# Altium integrated library Altera EPC Configuration Device.IntLib: 34 symbols (part 1 of 3)
Pins are listed as number, name and electrical type; pins without a type are passive.

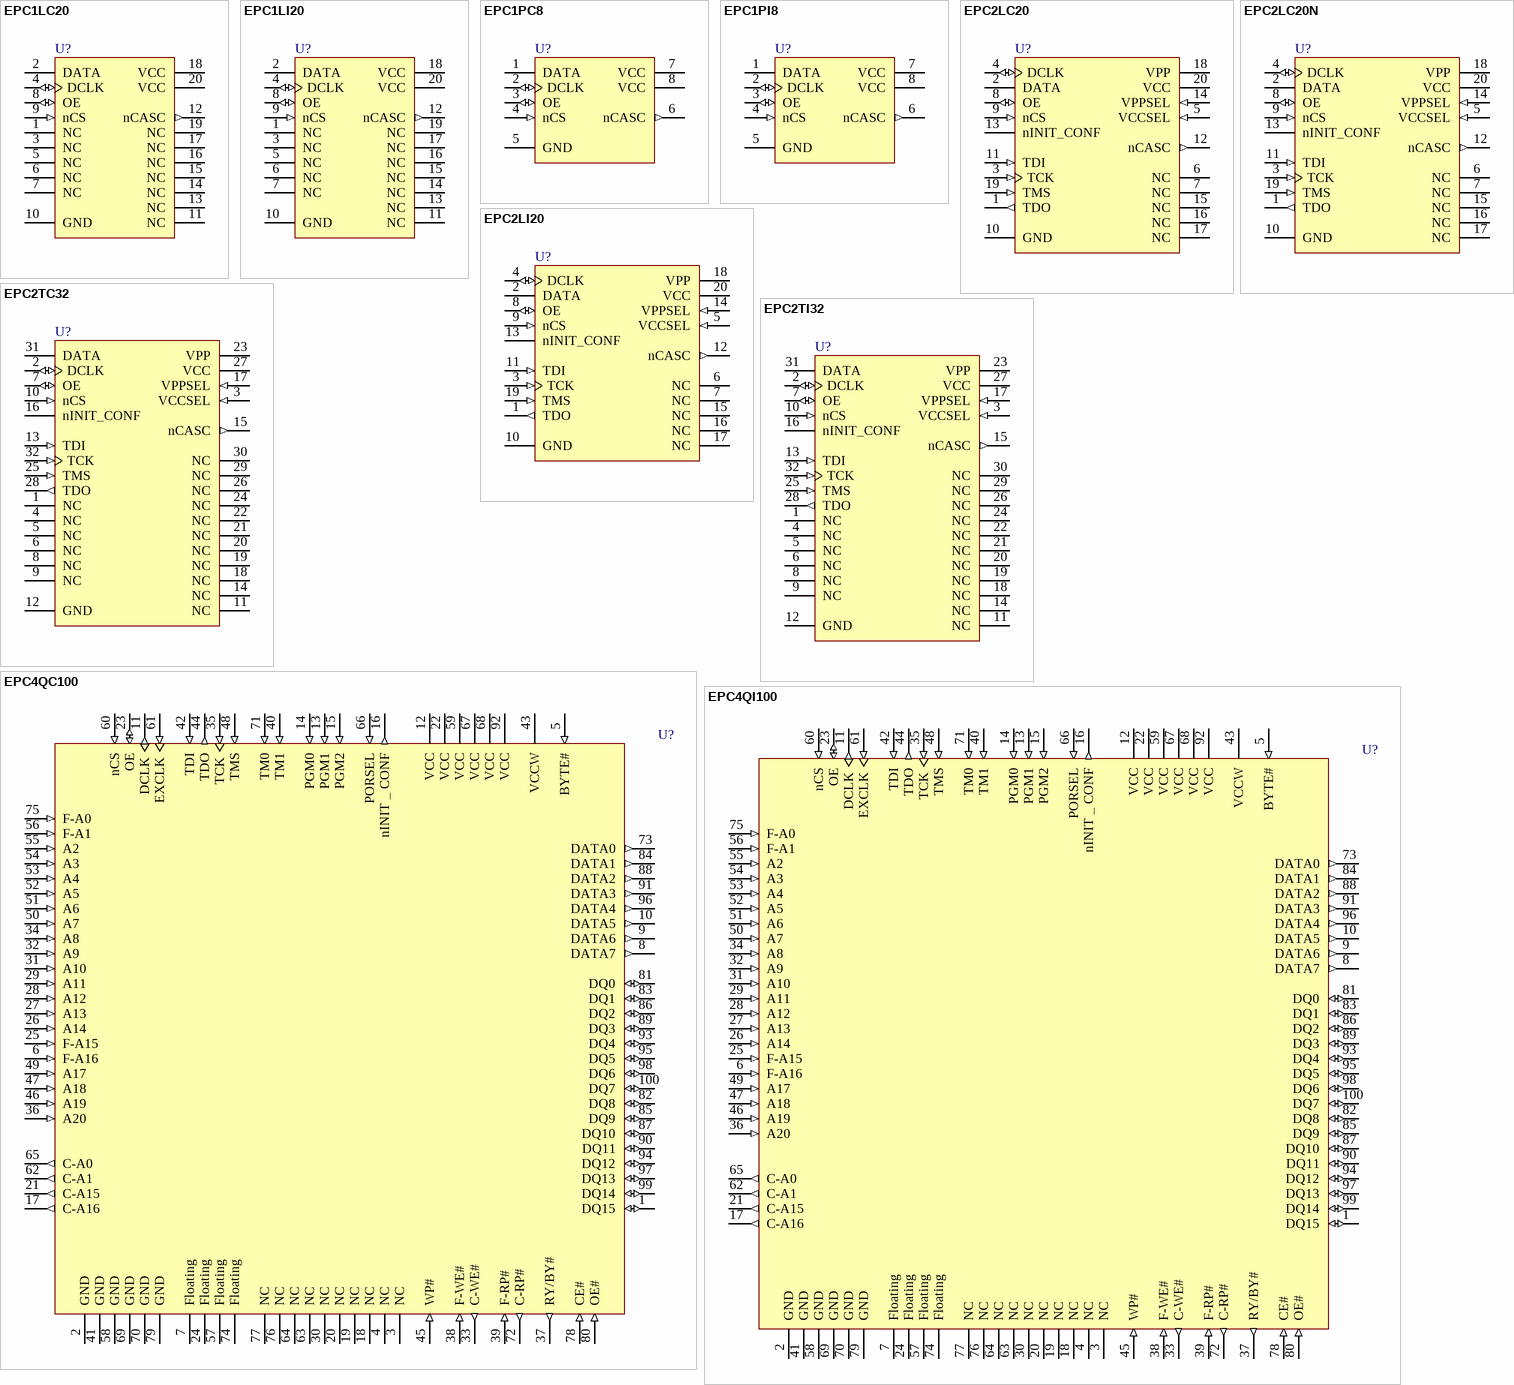
[diagram p0: symbols EPC1LC20 to EPC4QI100]

## EPC1LC20
designator U?
EPC1 Series, One-time programmable 3.3 or 5V configuration device, 20-Pin PLCC, 1-Megabit, Commercial Grade; Configures: APEX, FLEX & ACEX Devices; Published: 24-Nov-2000; LatestRevisionDate: 13-Apr-2006; LatestRevisionNote: IPC-7351 Footprint Added.; DatasheetVersion: ver2.0, Oct-2003; PackageVersion: ver14.2, Oct-2005; PackageReference: PLCC20; Publisher: Altium Limited; PackageDescription: 20-Pin Plastic J-Lead Chip Carrier (PLCC20); Supplier 1: Digi-Key; Supplier Part Number 1: 544-1229-5-ND; Code_JEDEC: MS-018-AA; Code_IPC: PLCC-20; ComponentLink1Description: Manufacturer Link; ComponentLink1URL: http://www.altera.com/products/devices/config/cfg-index.html; ComponentLink2Description: Configuration Handbook; ComponentLink2URL: http://www.altera.com/literature/hb/cfg/config_handbook.pdf; ComponentLink3Description: Pinout Specification; ComponentLink3URL: http://www.altera.com/literature/hb/cfg/cfg_cf52004.pdf; ComponentLink4Description: Packaging Specification; ComponentLink4URL: http://www.altera.com/literature/ds/dspkg.pdf
footprint PLCC20_N (Leaded Chip Carrier, 20-Leads, Body 9x9mm, Pitch 1.27mm, IPC Medium Density)
footprint PLCC20_L (Leaded Chip Carrier, 20-Leads, Body 9x9mm, Pitch 1.27mm, IPC High Density)
footprint PLCC20_M (Leaded Chip Carrier, 20-Leads, Body 9x9mm, Pitch 1.27mm, IPC Low Density)
3D model EPC1-PLCC20 (20-Pin Plastic J-Lead Chip Carrier (PLCC20))
pins: 1 NC "No Connect", 2 DATA (hiz) "Serial data out", 3 NC "No Connect", 4 DCLK (io), 5 NC "No Connect", 6 NC "No Connect", 7 NC "No Connect", 8 OE (io) "Output enable, and active low reset", 9 nCS (in) "Active low, chip select input", 10 GND (power) "Ground", 11 NC "No Connect", 12 nCASC (out) "Active low, cascade select output", 13 NC "No Connect", 14 NC "No Connect", 15 NC "No Connect", 16 NC "No Connect", 17 NC "No Connect", 18 VCC (power) "Power Supply", 19 NC "No Connect", 20 VCC (power) "Power Supply"

## EPC1LI20
designator U?
EPC1 Series, One-time programmable 3.3 or 5V configuration device, 20-Pin PLCC, 1-Megabit, Industrial Grade; Configures: APEX, FLEX & ACEX Devices; Published: 24-Nov-2000; LatestRevisionDate: 13-Apr-2006; LatestRevisionNote: IPC-7351 Footprint Added.; DatasheetVersion: ver2.0, Oct-2003; PackageVersion: ver14.2, Oct-2005; PackageReference: PLCC20; Publisher: Altium Limited; PackageDescription: 20-Pin Plastic J-Lead Chip Carrier (PLCC20); Supplier 1: Digi-Key; Supplier Part Number 1: 544-1230-5-ND; Code_JEDEC: MS-018-AA; Code_IPC: PLCC-20; ComponentLink1Description: Manufacturer Link; ComponentLink1URL: http://www.altera.com/products/devices/config/cfg-index.html; ComponentLink2Description: Configuration Handbook; ComponentLink2URL: http://www.altera.com/literature/hb/cfg/config_handbook.pdf; ComponentLink3Description: Pinout Specification; ComponentLink3URL: http://www.altera.com/literature/hb/cfg/cfg_cf52004.pdf; ComponentLink4Description: Packaging Specification; ComponentLink4URL: http://www.altera.com/literature/ds/dspkg.pdf
footprint PLCC20_N (Leaded Chip Carrier, 20-Leads, Body 9x9mm, Pitch 1.27mm, IPC Medium Density)
footprint PLCC20_L (Leaded Chip Carrier, 20-Leads, Body 9x9mm, Pitch 1.27mm, IPC High Density)
footprint PLCC20_M (Leaded Chip Carrier, 20-Leads, Body 9x9mm, Pitch 1.27mm, IPC Low Density)
3D model EPC1-PLCC20 (20-Pin Plastic J-Lead Chip Carrier (PLCC20))
pins: 1 NC "No Connect", 2 DATA (hiz) "Serial data out", 3 NC "No Connect", 4 DCLK (io), 5 NC "No Connect", 6 NC "No Connect", 7 NC "No Connect", 8 OE (io) "Output enable, and active low reset", 9 nCS (in) "Active low, chip select input", 10 GND (power) "Ground", 11 NC "No Connect", 12 nCASC (out) "Active low, cascade select output", 13 NC "No Connect", 14 NC "No Connect", 15 NC "No Connect", 16 NC "No Connect", 17 NC "No Connect", 18 VCC (power) "Power Supply", 19 NC "No Connect", 20 VCC (power) "Power Supply"

## EPC1PC8
designator U?
EPC1 Series, One-time programmable 3.3 or 5V configuration device, 8-Pin PDIP, 1-Megabit, Commercial Grade; Configures: APEX, FLEX & ACEX Devices; Published: 24-Nov-2000; LatestRevisionDate: 17-Dec-2003; LatestRevisionNote: Updated to Oct-2003 datasheet; DatasheetVersion: ver2.0, Oct-2003; PackageVersion: ver14.2, Oct-2005; PackageReference: PDIP8; Publisher: Altium Limited; PackageDescription: 8-Pin Plastic Dual In-Line Package (PDIP); Supplier 1: Digi-Key; Supplier Part Number 1: 544-1231-5-ND; Code_JEDEC: MS-001-BA; ComponentLink1Description: Manufacturer Link; ComponentLink1URL: http://www.altera.com/products/devices/config/cfg-index.html; ComponentLink2Description: Configuration Handbook; ComponentLink2URL: http://www.altera.com/literature/hb/cfg/config_handbook.pdf; ComponentLink3Description: Pinout Specification; ComponentLink3URL: http://www.altera.com/literature/hb/cfg/cfg_cf52004.pdf; ComponentLink4Description: Packaging Specification; ComponentLink4URL: http://www.altera.com/literature/ds/dspkg.pdf
footprint PDIP8 (DIP, 8-Leads, Row Spacing 7.62mm, Pitch 2.54mm, Body 9.4x6.35mm)
pins: 1 DATA (hiz) "Serial data out", 2 DCLK (io), 3 OE (io) "Output enable, and active low reset", 4 nCS (in) "Active low, chip select input", 5 GND (power) "Ground", 6 nCASC (out) "Active low, cascade select output", 7 VCC (power) "3.3V supply", 8 VCC (power) "3.3V supply"

## EPC1PI8
designator U?
EPC1 Series, One-time programmable 3.3 or 5V configuration device, 8-Pin PDIP, 1-Megabit, Industrial Grade; Configures: APEX, FLEX & ACEX Devices; Published: 24-Nov-2000; LatestRevisionDate: 17-Dec-2003; LatestRevisionNote: Updated to Oct-2003 datasheet; DatasheetVersion: ver2.0, Oct-2003; PackageVersion: ver14.2, Oct-2005; PackageReference: PDIP8; Publisher: Altium Limited; PackageDescription: 8-Pin Plastic Dual In-Line Package (PDIP); Supplier 1: Digi-Key; Supplier Part Number 1: 544-1232-5-ND; Code_JEDEC: MS-001-BA; ComponentLink1Description: Manufacturer Link; ComponentLink1URL: http://www.altera.com/products/devices/config/cfg-index.html; ComponentLink2Description: Configuration Handbook; ComponentLink2URL: http://www.altera.com/literature/hb/cfg/config_handbook.pdf; ComponentLink3Description: Pinout Specification; ComponentLink3URL: http://www.altera.com/literature/hb/cfg/cfg_cf52004.pdf; ComponentLink4Description: Packaging Specification; ComponentLink4URL: http://www.altera.com/literature/ds/dspkg.pdf
footprint PDIP8 (DIP, 8-Leads, Row Spacing 7.62mm, Pitch 2.54mm, Body 9.4x6.35mm)
pins: 1 DATA (hiz) "Serial data out", 2 DCLK (io), 3 OE (io) "Output enable, and active low reset", 4 nCS (in) "Active low, chip select input", 5 GND (power) "Ground", 6 nCASC (out) "Active low, cascade select output", 7 VCC (power) "3.3V supply", 8 VCC (power) "3.3V supply"

## EPC2LC20
designator U?
EPC2 Series, In-system programmable 3.3 or 5V configuration device, 20-Pin PLCC, 1.6-Megabit, Commercial Grade; Configures: Stratix II, Stratix, Stratix GX, Cyclone II, Cyclone, APEX II, APEX, FLEX, Mercury, ACEX, and Excalibur Devices; Published: 17-Sep-2003; LatestRevisionDate: 13-Apr-2006; LatestRevisionNote: IPC-7351 Footprint Added.; DatasheetVersion: ver2.0, Oct-2003; PackageVersion: ver14.2, Oct-2005; PackageReference: PLCC20; Publisher: Altium Limited; PackageDescription: 20-Pin Plastic J-Lead Chip Carrier (PLCC20); Supplier 1: Digi-Key; Supplier Part Number 1: 544-1233-5-ND; Code_JEDEC: MS-018-AA; Code_IPC: PLCC-20; ComponentLink1Description: Manufacturer Link; ComponentLink1URL: http://www.altera.com/products/devices/config/cfg-index.html; ComponentLink2Description: Configuration Handbook; ComponentLink2URL: http://www.altera.com/literature/hb/cfg/config_handbook.pdf; ComponentLink3Description: Pinout Specification; ComponentLink3URL: http://www.altera.com/literature/hb/cfg/cfg_cf52004.pdf; ComponentLink4Description: Packaging Specification; ComponentLink4URL: http://www.altera.com/literature/ds/dspkg.pdf
footprint PLCC20_N (Leaded Chip Carrier, 20-Leads, Body 9x9mm, Pitch 1.27mm, IPC Medium Density)
footprint PLCC20_L (Leaded Chip Carrier, 20-Leads, Body 9x9mm, Pitch 1.27mm, IPC High Density)
footprint PLCC20_M (Leaded Chip Carrier, 20-Leads, Body 9x9mm, Pitch 1.27mm, IPC Low Density)
3D model EPC2-PLCC20 (20-Pin Plastic J-Lead Chip Carrier (PLCC20))
pins: 1 TDO (out) "JTAG data output pin", 2 DATA (hiz) "Serial data out", 3 TCK (in) "JTAG clock pin", 4 DCLK (io), 5 VCCSEL (in) "Mode select for VCC", 6 NC "No Connect", 7 NC "No Connect", 8 OE (io) "Output enable, and active low reset", 9 nCS (in) "Active low, chip select input", 10 GND (power) "Ground", 11 TDI (in) "JTAG data input pin", 12 nCASC (out) "Active low, cascade select output", 13 nINIT_CONF (oc), 14 VPPSEL (in) "Mode select for VPP", 15 NC "No Connect", 16 NC "No Connect", 17 NC "No Connect", 18 VPP (power) "Programming power pin", 19 TMS (in) "JTAG mode select pin", 20 VCC (power) "Power Supply"

## EPC2LC20N
designator U?
EPC2 Series, In-system programmable 3.3 or 5V configuration device, 20-Pin PLCC, 1.6-Megabit, Commercial Grade, Pb-Free; Configures: Stratix II, Stratix, Stratix GX, Cyclone II, Cyclone, APEX II, APEX, FLEX, Mercury, ACEX, and Excalibur Devices; Published: 4-Mar-2005; LatestRevisionDate: 13-Apr-2006; LatestRevisionNote: IPC-7351 Footprint Added.; DatasheetVersion: ver2.0, Oct-2003; PackageVersion: ver14.2, Oct-2005; PackageReference: PLCC20; Publisher: Altium Limited; PackageDescription: 20-Pin Plastic J-Lead Chip Carrier (PLCC20); Supplier 1: Digi-Key; Supplier Part Number 1: 544-1376-5-ND; Supplier 2: Farnell; Supplier Part Number 2: 1662270; Supplier 3: Farnell; Supplier Part Number 3: 1549336; Code_JEDEC: MS-018-AA; Code_IPC: PLCC-20; ComponentLink1Description: Manufacturer Link; ComponentLink1URL: http://www.altera.com/products/devices/config/cfg-index.html; ComponentLink2Description: Configuration Handbook; ComponentLink2URL: http://www.altera.com/literature/hb/cfg/config_handbook.pdf; ComponentLink3Description: Pinout Specification; ComponentLink3URL: http://www.altera.com/literature/hb/cfg/cfg_cf52004.pdf; ComponentLink4Description: Packaging Specification; ComponentLink4URL: http://www.altera.com/literature/ds/dspkg.pdf
footprint PLCC20_N (Leaded Chip Carrier, 20-Leads, Body 9x9mm, Pitch 1.27mm, IPC Medium Density)
footprint PLCC20_L (Leaded Chip Carrier, 20-Leads, Body 9x9mm, Pitch 1.27mm, IPC High Density)
footprint PLCC20_M (Leaded Chip Carrier, 20-Leads, Body 9x9mm, Pitch 1.27mm, IPC Low Density)
3D model EPC2-PLCC20 (20-Pin Plastic J-Lead Chip Carrier (PLCC20))
pins: 1 TDO (out) "JTAG data output pin", 2 DATA (hiz) "Serial data out", 3 TCK (in) "JTAG clock pin", 4 DCLK (io), 5 VCCSEL (in) "Mode select for VCC", 6 NC "No Connect", 7 NC "No Connect", 8 OE (io) "Output enable, and active low reset", 9 nCS (in) "Active low, chip select input", 10 GND (power) "Ground", 11 TDI (in) "JTAG data input pin", 12 nCASC (out) "Active low, cascade select output", 13 nINIT_CONF (oc), 14 VPPSEL (in) "Mode select for VPP", 15 NC "No Connect", 16 NC "No Connect", 17 NC "No Connect", 18 VPP (power) "Programming power pin", 19 TMS (in) "JTAG mode select pin", 20 VCC (power) "Power Supply"

## EPC2LI20
designator U?
EPC2 Series, In-system programmable 3.3 or 5V configuration device, 20-Pin PLCC, 1.6-Megabit, Industrial Grade; Configures: Stratix II, Stratix, Stratix GX, Cyclone II, Cyclone, APEX II, APEX, FLEX, Mercury, ACEX, and Excalibur Devices; Published: 17-Sep-2003; LatestRevisionDate: 13-Apr-2006; LatestRevisionNote: IPC-7351 Footprint Added.; DatasheetVersion: ver2.0, Oct-2003; PackageVersion: ver14.2, Oct-2005; PackageReference: PLCC20; Publisher: Altium Limited; PackageDescription: 20-Pin Plastic J-Lead Chip Carrier (PLCC20); Supplier 1: Digi-Key; Supplier Part Number 1: 544-1234-5-ND; Code_JEDEC: MS-018-AA; Code_IPC: PLCC-20; ComponentLink1Description: Manufacturer Link; ComponentLink1URL: http://www.altera.com/products/devices/config/cfg-index.html; ComponentLink2Description: Configuration Handbook; ComponentLink2URL: http://www.altera.com/literature/hb/cfg/config_handbook.pdf; ComponentLink3Description: Pinout Specification; ComponentLink3URL: http://www.altera.com/literature/hb/cfg/cfg_cf52004.pdf; ComponentLink4Description: Packaging Specification; ComponentLink4URL: http://www.altera.com/literature/ds/dspkg.pdf
footprint PLCC20_N (Leaded Chip Carrier, 20-Leads, Body 9x9mm, Pitch 1.27mm, IPC Medium Density)
footprint PLCC20_L (Leaded Chip Carrier, 20-Leads, Body 9x9mm, Pitch 1.27mm, IPC High Density)
footprint PLCC20_M (Leaded Chip Carrier, 20-Leads, Body 9x9mm, Pitch 1.27mm, IPC Low Density)
3D model EPC2-PLCC20 (20-Pin Plastic J-Lead Chip Carrier (PLCC20))
pins: 1 TDO (out) "JTAG data output pin", 2 DATA (hiz) "Serial data out", 3 TCK (in) "JTAG clock pin", 4 DCLK (io), 5 VCCSEL (in) "Mode select for VCC", 6 NC "No Connect", 7 NC "No Connect", 8 OE (io) "Output enable, and active low reset", 9 nCS (in) "Active low, chip select input", 10 GND (power) "Ground", 11 TDI (in) "JTAG data input pin", 12 nCASC (out) "Active low, cascade select output", 13 nINIT_CONF (oc), 14 VPPSEL (in) "Mode select for VPP", 15 NC "No Connect", 16 NC "No Connect", 17 NC "No Connect", 18 VPP (power) "Programming power pin", 19 TMS (in) "JTAG mode select pin", 20 VCC (power) "Power Supply"

## EPC2TC32
designator U?
EPC2 Series, In-system programmable 3.3 or 5V configuration device, 32-Pin TQFP, 1.6-Megabit, Commercial Grade; Configures: Stratix II, Stratix, Stratix GX, Cyclone II, Cyclone, APEX II, APEX, FLEX, Mercury, ACEX, and Excalibur Devices; Published: 17-Sep-2003; LatestRevisionDate: 13-Apr-2006; LatestRevisionNote: IPC-7351 Footprint Added.; DatasheetVersion: ver2.0, Oct-2003; PackageVersion: ver14.2, Oct-2005; PackageReference: TQFP32; Publisher: Altium Limited; PackageDescription: 32-Pin Plastic Thin Quad Flat Pack (TFQP32); Supplier 1: Digi-Key; Supplier Part Number 1: 544-1235-ND; Code_JEDEC: MS-026-ABA; ComponentLink1Description: Manufacturer Link; ComponentLink1URL: http://www.altera.com/products/devices/config/cfg-index.html; ComponentLink2Description: Configuration Handbook; ComponentLink2URL: http://www.altera.com/literature/hb/cfg/config_handbook.pdf; ComponentLink3Description: Pinout Specification; ComponentLink3URL: http://www.altera.com/literature/hb/cfg/cfg_cf52004.pdf; ComponentLink4Description: Packaging Specification; ComponentLink4URL: http://www.altera.com/literature/ds/dspkg.pdf
footprint TQFP32_N (Thin QFP, 32-Leads, Body 7x7mm, Pitch 0.8mm, IPC Medium Density)
footprint TQFP32_L (Thin QFP, 32-Leads, Body 7x7mm, Pitch 0.8mm, IPC High Density)
footprint TQFP32_M (Thin QFP, 32-Leads, Body 7x7mm, Pitch 0.8mm, IPC Low Density)
3D model EPC2-TQFP32 (32-Pin Plastic Thin Quad Flat Pack (TFQP32))
pins: 1 NC "No Connect", 2 DCLK (io), 3 VCCSEL (in) "Mode select for VCC", 4 NC "No Connect", 5 NC "No Connect", 6 NC "No Connect", 7 OE (io) "Output enable, and active low reset", 8 NC "No Connect", 9 NC "No Connect", 10 nCS (in) "Active low, chip select input", 11 NC "No Connect", 12 GND (power) "Ground", 13 TDI (in) "JTAG data input pin", 14 NC "No Connect", 15 nCASC (out) "Active low, cascade select output", 16 nINIT_CONF (oc), 17 VPPSEL (in) "Mode select for VPP", 18 NC "No Connect", 19 NC "No Connect", 20 NC "No Connect", 21 NC "No Connect", 22 NC "No Connect", 23 VPP (power) "Programming power pin", 24 NC "No Connect", 25 TMS (in) "JTAG mode select pin", 26 NC "No Connect", 27 VCC (power) "Power Supply", 28 TDO (out) "JTAG data output pin", 29 NC "No Connect", 30 NC "No Connect", 31 DATA (hiz) "Serial data out", 32 TCK (in) "JTAG clock pin"

## EPC2TI32
designator U?
EPC2 Series, In-system programmable 3.3 or 5V configuration device, 32-Pin TQFP, 1.6-Megabit, Industrial Grade; Configures: Stratix II, Stratix, Stratix GX, Cyclone II, Cyclone, APEX II, APEX, FLEX, Mercury, ACEX, and Excalibur Devices; Published: 17-Sep-2003; LatestRevisionDate: 13-Apr-2006; LatestRevisionNote: IPC-7351 Footprint Added.; DatasheetVersion: ver2.0, Oct-2003; PackageVersion: ver14.2, Oct-2005; PackageReference: TQFP32; Publisher: Altium Limited; PackageDescription: 32-Pin Plastic Thin Quad Flat Pack (TFQP32); Supplier 1: Digi-Key; Supplier Part Number 1: 544-1236-ND; Code_JEDEC: MS-026-ABA; ComponentLink1Description: Manufacturer Link; ComponentLink1URL: http://www.altera.com/products/devices/config/cfg-index.html; ComponentLink2Description: Configuration Handbook; ComponentLink2URL: http://www.altera.com/literature/hb/cfg/config_handbook.pdf; ComponentLink3Description: Pinout Specification; ComponentLink3URL: http://www.altera.com/literature/hb/cfg/cfg_cf52004.pdf; ComponentLink4Description: Packaging Specification; ComponentLink4URL: http://www.altera.com/literature/ds/dspkg.pdf
footprint TQFP32_N (Thin QFP, 32-Leads, Body 7x7mm, Pitch 0.8mm, IPC Medium Density)
footprint TQFP32_L (Thin QFP, 32-Leads, Body 7x7mm, Pitch 0.8mm, IPC High Density)
footprint TQFP32_M (Thin QFP, 32-Leads, Body 7x7mm, Pitch 0.8mm, IPC Low Density)
3D model EPC2-TQFP32 (32-Pin Plastic Thin Quad Flat Pack (TFQP32))
pins: 1 NC "No Connect", 2 DCLK (io), 3 VCCSEL (in) "Mode select for VCC", 4 NC "No Connect", 5 NC "No Connect", 6 NC "No Connect", 7 OE (io) "Output enable, and active low reset", 8 NC "No Connect", 9 NC "No Connect", 10 nCS (in) "Active low, chip select input", 11 NC "No Connect", 12 GND (power) "Ground", 13 TDI (in) "JTAG data input pin", 14 NC "No Connect", 15 nCASC (out) "Active low, cascade select output", 16 nINIT_CONF (oc), 17 VPPSEL (in) "Mode select for VPP", 18 NC "No Connect", 19 NC "No Connect", 20 NC "No Connect", 21 NC "No Connect", 22 NC "No Connect", 23 VPP (power) "Programming power pin", 24 NC "No Connect", 25 TMS (in) "JTAG mode select pin", 26 NC "No Connect", 27 VCC (power) "Power Supply", 28 TDO (out) "JTAG data output pin", 29 NC "No Connect", 30 NC "No Connect", 31 DATA (hiz) "Serial data out", 32 TCK (in) "JTAG clock pin"

## EPC4QC100
designator U?
EPC4 Series, In-system programmable 3.3V configuration device, 100-Pin PQFP, 4-Megabit, Commercial Grade; Configures: Stratix II, Stratix, Stratix GX, Cyclone II, Cyclone, APEX II, APEX, FLEX, Mercury, ACEX & Excalibur Devices; Published: 17-Sep-2003; LatestRevisionDate: 13-Apr-2006; LatestRevisionNote: IPC-7351 Footprint Added.; DatasheetVersion: ver2.0, Oct-2003; PackageVersion: ver14.3, Jul-2006; PackageReference: PQFP100; Publisher: Altium Limited; PackageDescription: 100-Pin Plastic Quad Flat Pack (PFQP100) - Option 1; Supplier 1: Digi-Key; Supplier Part Number 1: 544-1237-ND; Code_JEDEC: MS-022-GC-1; Code_IPC: QFP65P1720X2320-100; ComponentLink1Description: Manufacturer Link; ComponentLink1URL: http://www.altera.com/products/devices/config/cfg-index.html; ComponentLink2Description: Configuration Handbook; ComponentLink2URL: http://www.altera.com/literature/hb/cfg/config_handbook.pdf; ComponentLink3Description: Pinout Specification; ComponentLink3URL: http://www.altera.com/literature/dp/config/epc4.txt; ComponentLink4Description: Packaging Specification; ComponentLink4URL: http://www.altera.com/literature/ds/dspkg.pdf
footprint PQFP100_N (QFP, 100-Leads, Body 20x14mm, Pitch 0.65mm, IPC Medium Density)
footprint PQFP100_L (QFP, 100-Leads, Body 20x14mm, Pitch 0.65mm, IPC High Density)
footprint PQFP100_M (QFP, 100-Leads, Body 20x14mm, Pitch 0.65mm, IPC Low Density)
3D model EPC4-PQFP100 (100-Pin Plastic Quad Flat Pack (PFQP100) - Option 1)
pins: 1 DQ15 (io) "Data bus that interfaces with flash memory and the controller.", 2 GND (power) "Ground pin", 3 NC "No Connect pin", 4 NC "No Connect pin", 5 BYTE# (in) "Flash byte enable. Connected to VCC.", 6 F-A16 (in) "Address input to flash memory. Should be connected to C-A16 on the board.", 7 Floating "Unconnected pin", 8 DATA7 (out) "PLD configuration output data bus.", 9 DATA6 (out) "PLD configuration output data bus.", 10 DATA5 (out) "PLD configuration output data bus.", 11 DCLK (out) "Configuration devices drive this signal to the programmable logic device (PLD) as a configuration clock.", 12 VCC (power) "Power supply pin", 13 PGM1 (in) "Select one of eight pages that contains configuration data.", 14 PGM0 (in) "Select one of eight pages that contains configuration data.", 15 PGM2 (in) "Select one of eight pages that contains configuration data.", 16 nINIT _ CONF (out) "Initiate configuration.", 17 C-A16 (out) "Address input to flash memory. Should be connected to F-A16 on the board.", 18 NC "No Connect pin", 19 NC "No Connect pin", 20 NC "No Connect pin", 21 C-A15 (out) "Address input to flash memory. Should be connected to F-A15 on the board.", 22 VCC (power) "Power supply pin", 23 OE (io) "Configuration devices sense that OE goes high, before starting PLD configuration.", 24 Floating "Unconnected pin", 25 F-A15 (in) "Address input to flash memory. Should be connected to C-A15 on the board.", 26 A14 (in) "Address input to flash memory.", 27 A13 (in) "Address input to flash memory.", 28 A12 (in) "Address input to flash memory.", 29 A11 (in) "Address input to flash memory.", 30 NC "No Connect pin", 31 A10 (in) "Address input to flash memory.", 32 A9 (in) "Address input to flash memory.", 33 C-WE# (out) "Controller write enable pin. Should be connected to F-WE# on the board", 34 A8 (in) "Address input to flash memory.", 35 TCK (in) "JTAG clock.", 36 A20 (in) "Address input to flash memory.", 37 RY/BY# (out) "Flash ready busy pin. Will be asserted when write or erase operation is completed.", 38 F-WE# (in) "Flash write enable pin. Should be connected to C-WE# on the board", 39 F-RP# (in) "Flash pin which resets the flash memory. Should be connected to C-RP# on the board.", 40 TM1 (in) "Select test mode for configuration device.", 41 GND (power) "Ground pin", 42 TDI (in) "Joint Test Action Group (JTAG) data input.", 43 VCCW (power) "Flash program/erase power supply.", 44 TDO (out) "JTAG data output.", 45 WP# (in) "Flash pin which should be tied to VCC or GND on the board.", 46 A19 (in) "Address input to flash memory.", 47 A18 (in) "Address input to flash memory.", 48 TMS (in) "JTAG mode selection.", 49 A17 (in) "Address input to flash memory.", 50 A7 (in) "Address input to flash memory.", 51 A6 (in) "Address input to flash memory.", 52 A5 (in) "Address input to flash memory.", 53 A4 (in) "Address input to flash memory.", 54 A3 (in) "Address input to flash memory.", 55 A2 (in) "Address input to flash memory.", 56 F-A1 (in) "Address input to flash memory. Should be connected to C-A1 on the board.", 57 Floating "Unconnected pin", 58 GND (power) "Ground pin", 59 VCC (power) "Power supply pin", 60 nCS (in) "Connected to CONF_DONE in the PLD. The PLD will drive it low, when OE is asserted.", 61 EXCLK (in) "External clock source.", 62 C-A1 (out) "Address input to flash memory. Should be connected to F-A1 on the board.", 63 NC "No Connect pin", 64 NC "No Connect pin", 65 C-A0 (out) "Address input to flash memory. Should be connected to F-A0 on the board.", 66 PORSEL (in) "Select 2 ms or 100 ms power-on reset (POR).", 67 VCC (power) "Power supply pin", 68 VCC (power) "Power supply pin", 69 GND (power) "Ground pin", 70 GND (power) "Ground pin", 71 TM0 (in) "Select test mode for configuration device.", 72 C-RP# (out) "Flash pin which resets the flash memory. Should be connected to F-RP# on the board.", 73 DATA0 (out) "PLD configuration output data bus.", 74 Floating "Unconnected pin", 75 F-A0 (in) "Address input to Flash memory. Should be connected to C-A0 on the board.", 76 NC "No Connect pin", 77 NC "No Connect pin", 78 CE# (in) "Flash pin that activates the flash memory.", 79 GND (power) "Ground pin", 80 OE# (in) "Flash pin that enables the drivers of the flash output pins.", 81 DQ0 (io) "Data bus that interfaces with flash memory and the controller.", 82 DQ8 (io) "Data bus that interfaces with flash memory and the controller.", 83 DQ1 (io) "Data bus that interfaces with flash memory and the controller.", 84 DATA1 (out) "PLD configuration output data bus.", 85 DQ9 (io) "Data bus that interfaces with flash memory and the controller.", 86 DQ2 (io) "Data bus that interfaces with flash memory and the controller.", 87 DQ10 (io) "Data bus that interfaces with flash memory and the controller.", 88 DATA2 (out) "PLD configuration output data bus.", 89 DQ3 (io) "Data bus that interfaces with flash memory and the controller.", 90 DQ11 (io) "Data bus that interfaces with flash memory and the controller.", 91 DATA3 (out) "PLD configuration output data bus.", 92 VCC (power) "Power supply pin", 93 DQ4 (io) "Data bus that interfaces with flash memory and the controller.", 94 DQ12 (io) "Data bus that interfaces with flash memory and the controller.", 95 DQ5 (io) "Data bus that interfaces with flash memory and the controller.", 96 DATA4 (out) "PLD configuration output data bus.", 97 DQ13 (io) "Data bus that interfaces with flash memory and the controller.", 98 DQ6 (io) "Data bus that interfaces with flash memory and the controller.", 99 DQ14 (io) "Data bus that interfaces with flash memory and the controller.", 100 DQ7 (io) "Data bus that interfaces with flash memory and the controller."

## EPC4QI100
designator U?
EPC4 Series, In-system programmable 3.3V configuration device, 100-Pin PQFP, 4-Megabit, Industrial Grade; Configures: Stratix II, Stratix, Stratix GX, Cyclone II, Cyclone, APEX II, APEX, FLEX, Mercury, ACEX & Excalibur Devices; Published: 17-Sep-2003; LatestRevisionDate: 13-Apr-2006; LatestRevisionNote: IPC-7351 Footprint Added.; DatasheetVersion: ver2.0, Oct-2003; PackageVersion: ver14.3, Jul-2006; PackageReference: PQFP100; Publisher: Altium Limited; PackageDescription: 100-Pin Plastic Quad Flat Pack (PFQP100) - Option 1; Supplier 1: Digi-Key; Supplier Part Number 1: 544-2189-ND; Code_JEDEC: MS-022-GC-1; Code_IPC: QFP65P1720X2320-100; ComponentLink1Description: Manufacturer Link; ComponentLink1URL: http://www.altera.com/products/devices/config/cfg-index.html; ComponentLink2Description: Configuration Handbook; ComponentLink2URL: http://www.altera.com/literature/hb/cfg/config_handbook.pdf; ComponentLink3Description: Pinout Specification; ComponentLink3URL: http://www.altera.com/literature/dp/config/epc4.txt; ComponentLink4Description: Packaging Specification; ComponentLink4URL: http://www.altera.com/literature/ds/dspkg.pdf
footprint PQFP100_N (QFP, 100-Leads, Body 20x14mm, Pitch 0.65mm, IPC Medium Density)
footprint PQFP100_L (QFP, 100-Leads, Body 20x14mm, Pitch 0.65mm, IPC High Density)
footprint PQFP100_M (QFP, 100-Leads, Body 20x14mm, Pitch 0.65mm, IPC Low Density)
3D model EPC4-PQFP100 (100-Pin Plastic Quad Flat Pack (PFQP100) - Option 1)
pins: 1 DQ15 (io) "Data bus that interfaces with flash memory and the controller.", 2 GND (power) "Ground pin", 3 NC "No Connect pin", 4 NC "No Connect pin", 5 BYTE# (in) "Flash byte enable. Connected to VCC.", 6 F-A16 (in) "Address input to flash memory. Should be connected to C-A16 on the board.", 7 Floating "Unconnected pin", 8 DATA7 (out) "PLD configuration output data bus.", 9 DATA6 (out) "PLD configuration output data bus.", 10 DATA5 (out) "PLD configuration output data bus.", 11 DCLK (out) "Configuration devices drive this signal to the programmable logic device (PLD) as a configuration clock.", 12 VCC (power) "Power supply pin", 13 PGM1 (in) "Select one of eight pages that contains configuration data.", 14 PGM0 (in) "Select one of eight pages that contains configuration data.", 15 PGM2 (in) "Select one of eight pages that contains configuration data.", 16 nINIT _ CONF (out) "Initiate configuration.", 17 C-A16 (out) "Address input to flash memory. Should be connected to F-A16 on the board.", 18 NC "No Connect pin", 19 NC "No Connect pin", 20 NC "No Connect pin", 21 C-A15 (out) "Address input to flash memory. Should be connected to F-A15 on the board.", 22 VCC (power) "Power supply pin", 23 OE (io) "Configuration devices sense that OE goes high, before starting PLD configuration.", 24 Floating "Unconnected pin", 25 F-A15 (in) "Address input to flash memory. Should be connected to C-A15 on the board.", 26 A14 (in) "Address input to flash memory.", 27 A13 (in) "Address input to flash memory.", 28 A12 (in) "Address input to flash memory.", 29 A11 (in) "Address input to flash memory.", 30 NC "No Connect pin", 31 A10 (in) "Address input to flash memory.", 32 A9 (in) "Address input to flash memory.", 33 C-WE# (out) "Controller write enable pin. Should be connected to F-WE# on the board", 34 A8 (in) "Address input to flash memory.", 35 TCK (in) "JTAG clock.", 36 A20 (in) "Address input to flash memory.", 37 RY/BY# (out) "Flash ready busy pin. Will be asserted when write or erase operation is completed.", 38 F-WE# (in) "Flash write enable pin. Should be connected to C-WE# on the board", 39 F-RP# (in) "Flash pin which resets the flash memory. Should be connected to C-RP# on the board.", 40 TM1 (in) "Select test mode for configuration device.", 41 GND (power) "Ground pin", 42 TDI (in) "Joint Test Action Group (JTAG) data input.", 43 VCCW (power) "Flash program/erase power supply.", 44 TDO (out) "JTAG data output.", 45 WP# (in) "Flash pin which should be tied to VCC or GND on the board.", 46 A19 (in) "Address input to flash memory.", 47 A18 (in) "Address input to flash memory.", 48 TMS (in) "JTAG mode selection.", 49 A17 (in) "Address input to flash memory.", 50 A7 (in) "Address input to flash memory.", 51 A6 (in) "Address input to flash memory.", 52 A5 (in) "Address input to flash memory.", 53 A4 (in) "Address input to flash memory.", 54 A3 (in) "Address input to flash memory.", 55 A2 (in) "Address input to flash memory.", 56 F-A1 (in) "Address input to flash memory. Should be connected to C-A1 on the board.", 57 Floating "Unconnected pin", 58 GND (power) "Ground pin", 59 VCC (power) "Power supply pin", 60 nCS (in) "Connected to CONF_DONE in the PLD. The PLD will drive it low, when OE is asserted.", 61 EXCLK (in) "External clock source.", 62 C-A1 (out) "Address input to flash memory. Should be connected to F-A1 on the board.", 63 NC "No Connect pin", 64 NC "No Connect pin", 65 C-A0 (out) "Address input to flash memory. Should be connected to F-A0 on the board.", 66 PORSEL (in) "Select 2 ms or 100 ms power-on reset (POR).", 67 VCC (power) "Power supply pin", 68 VCC (power) "Power supply pin", 69 GND (power) "Ground pin", 70 GND (power) "Ground pin", 71 TM0 (in) "Select test mode for configuration device.", 72 C-RP# (out) "Flash pin which resets the flash memory. Should be connected to F-RP# on the board.", 73 DATA0 (out) "PLD configuration output data bus.", 74 Floating "Unconnected pin", 75 F-A0 (in) "Address input to Flash memory. Should be connected to C-A0 on the board.", 76 NC "No Connect pin", 77 NC "No Connect pin", 78 CE# (in) "Flash pin that activates the flash memory.", 79 GND (power) "Ground pin", 80 OE# (in) "Flash pin that enables the drivers of the flash output pins.", 81 DQ0 (io) "Data bus that interfaces with flash memory and the controller.", 82 DQ8 (io) "Data bus that interfaces with flash memory and the controller.", 83 DQ1 (io) "Data bus that interfaces with flash memory and the controller.", 84 DATA1 (out) "PLD configuration output data bus.", 85 DQ9 (io) "Data bus that interfaces with flash memory and the controller.", 86 DQ2 (io) "Data bus that interfaces with flash memory and the controller.", 87 DQ10 (io) "Data bus that interfaces with flash memory and the controller.", 88 DATA2 (out) "PLD configuration output data bus.", 89 DQ3 (io) "Data bus that interfaces with flash memory and the controller.", 90 DQ11 (io) "Data bus that interfaces with flash memory and the controller.", 91 DATA3 (out) "PLD configuration output data bus.", 92 VCC (power) "Power supply pin", 93 DQ4 (io) "Data bus that interfaces with flash memory and the controller.", 94 DQ12 (io) "Data bus that interfaces with flash memory and the controller.", 95 DQ5 (io) "Data bus that interfaces with flash memory and the controller.", 96 DATA4 (out) "PLD configuration output data bus.", 97 DQ13 (io) "Data bus that interfaces with flash memory and the controller.", 98 DQ6 (io) "Data bus that interfaces with flash memory and the controller.", 99 DQ14 (io) "Data bus that interfaces with flash memory and the controller.", 100 DQ7 (io) "Data bus that interfaces with flash memory and the controller."

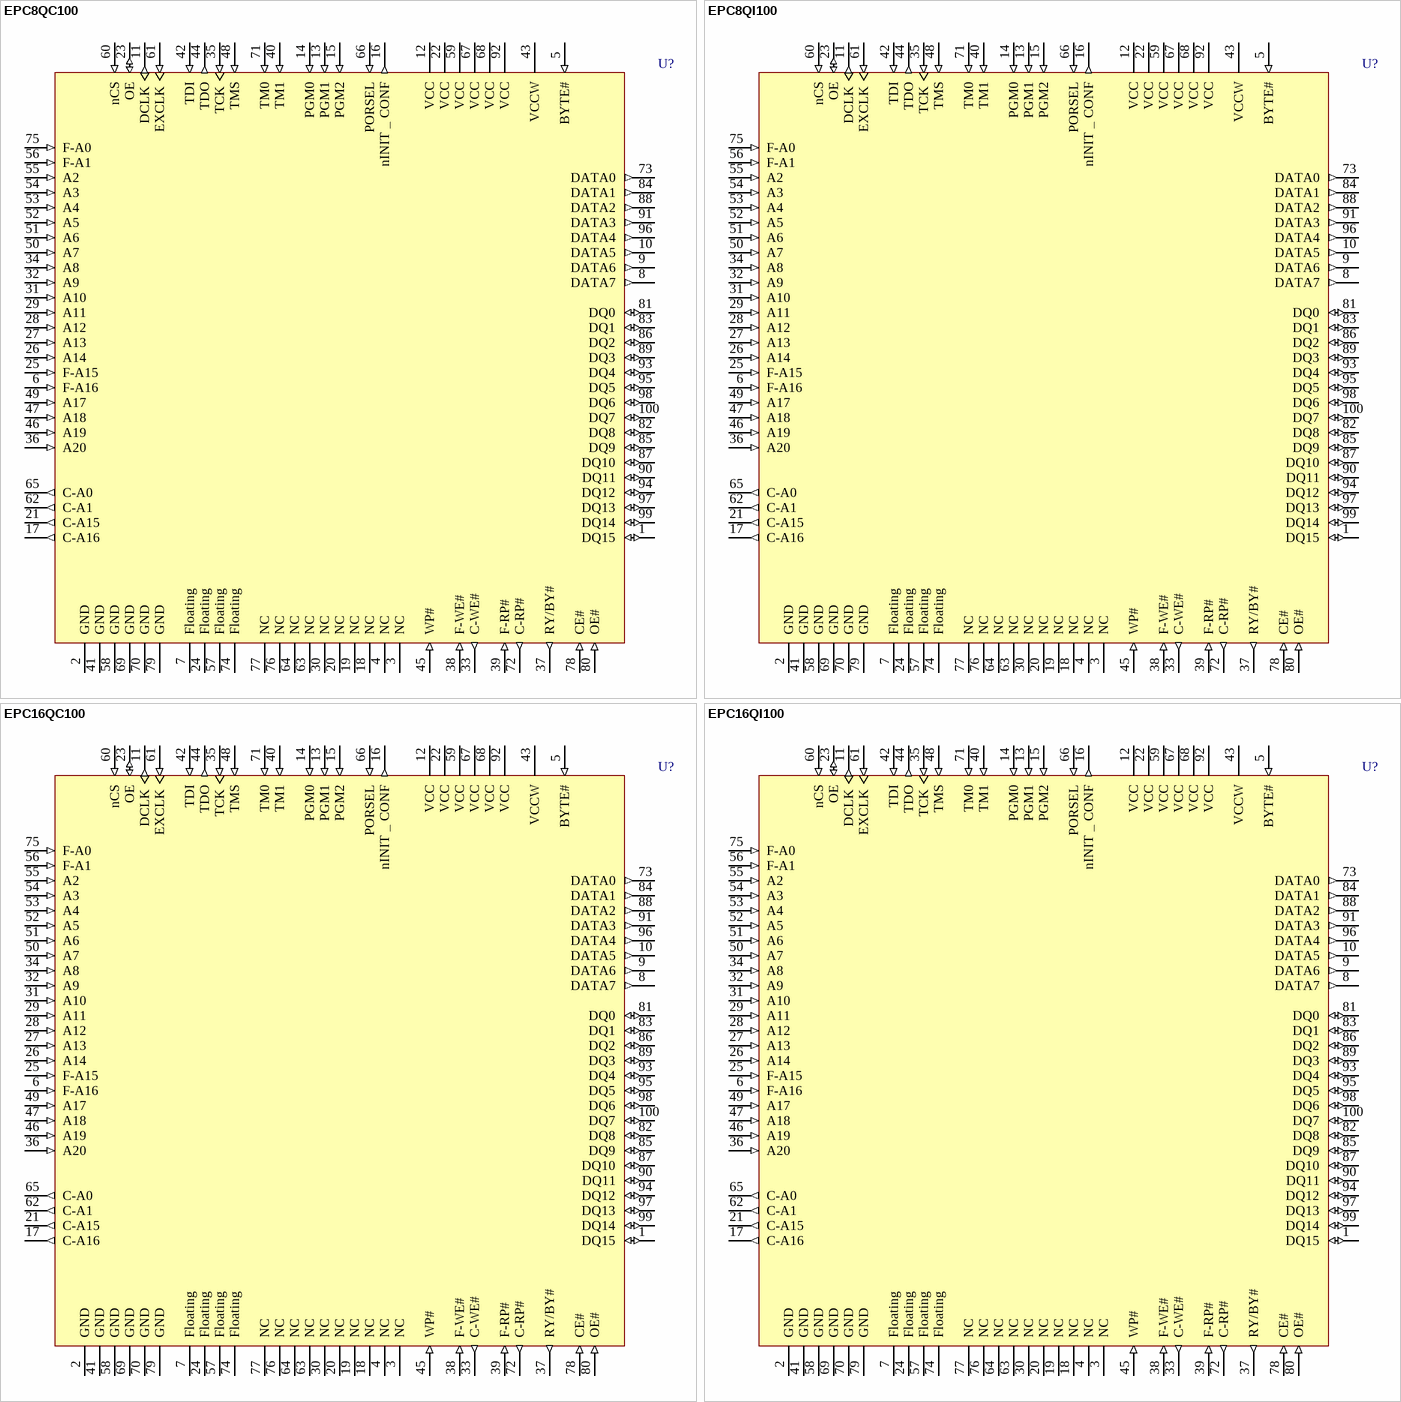
[diagram p1: symbols EPC8QC100 to EPC16QI100]

## EPC8QC100
designator U?
EPC8 Series, In-system programmable 3.3V configuration device, 100-Pin PQFP, 8-Megabit, Commercial Grade; Configures: Stratix II, Stratix, Stratix GX, Cyclone II, Cyclone, APEX II, APEX, FLEX, Mercury, ACEX & Excalibur Devices; Published: 17-Sep-2003; LatestRevisionDate: 13-Apr-2006; LatestRevisionNote: IPC-7351 Footprint Added.; DatasheetVersion: ver2.0, Oct-2003; PackageVersion: ver14.3, Jul-2006; PackageReference: PQFP100; Publisher: Altium Limited; PackageDescription: 100-Pin Plastic Quad Flat Pack (PFQP100) - Option 1; Supplier 1: Digi-Key; Supplier Part Number 1: 544-1238-ND; Code_JEDEC: MS-022-GC-1; Code_IPC: QFP65P1720X2320-100; ComponentLink1Description: Manufacturer Link; ComponentLink1URL: http://www.altera.com/products/devices/config/cfg-index.html; ComponentLink2Description: Configuration Handbook; ComponentLink2URL: http://www.altera.com/literature/hb/cfg/config_handbook.pdf; ComponentLink3Description: Pinout Specification; ComponentLink3URL: http://www.altera.com/literature/dp/config/epc8.txt; ComponentLink4Description: Packaging Specification; ComponentLink4URL: http://www.altera.com/literature/ds/dspkg.pdf
footprint PQFP100_N (QFP, 100-Leads, Body 20x14mm, Pitch 0.65mm, IPC Medium Density)
footprint PQFP100_L (QFP, 100-Leads, Body 20x14mm, Pitch 0.65mm, IPC High Density)
footprint PQFP100_M (QFP, 100-Leads, Body 20x14mm, Pitch 0.65mm, IPC Low Density)
3D model EPC8-PQFP100 (100-Pin Plastic Quad Flat Pack (PFQP100) - Option 1)
pins: 1 DQ15 (io) "Data bus that interfaces with flash memory and the controller.", 2 GND (power) "Ground pin", 3 NC "No Connect pin", 4 NC "No Connect pin", 5 BYTE# (in) "Flash byte enable. Connected to VCC.", 6 F-A16 (in) "Address input to flash memory. Should be connected to C-A16 on the board.", 7 Floating "Unconnected pin", 8 DATA7 (out) "PLD configuration output data bus.", 9 DATA6 (out) "PLD configuration output data bus.", 10 DATA5 (out) "PLD configuration output data bus.", 11 DCLK (out) "Configuration devices drive this signal to the programmable logic device (PLD) as a configuration clock.", 12 VCC (power) "Power supply pin", 13 PGM1 (in) "Select one of eight pages that contains configuration data.", 14 PGM0 (in) "Select one of eight pages that contains configuration data.", 15 PGM2 (in) "Select one of eight pages that contains configuration data.", 16 nINIT _ CONF (out) "Initiate configuration.", 17 C-A16 (out) "Address input to flash memory. Should be connected to F-A16 on the board.", 18 NC "No Connect pin", 19 NC "No Connect pin", 20 NC "No Connect pin", 21 C-A15 (out) "Address input to flash memory. Should be connected to F-A15 on the board.", 22 VCC (power) "Power supply pin", 23 OE (io) "Configuration devices sense that OE goes high, before starting PLD configuration.", 24 Floating "Unconnected pin", 25 F-A15 (in) "Address input to flash memory. Should be connected to C-A15 on the board.", 26 A14 (in) "Address input to flash memory.", 27 A13 (in) "Address input to flash memory.", 28 A12 (in) "Address input to flash memory.", 29 A11 (in) "Address input to flash memory.", 30 NC "No Connect pin", 31 A10 (in) "Address input to flash memory.", 32 A9 (in) "Address input to flash memory.", 33 C-WE# (out) "Controller write enable pin. Should be connected to F-WE# on the board", 34 A8 (in) "Address input to flash memory.", 35 TCK (in) "JTAG clock.", 36 A20 (in) "Address input to flash memory.", 37 RY/BY# (out) "Flash ready busy pin. Will be asserted when write or erase operation is completed.", 38 F-WE# (in) "Flash write enable pin. Should be connected to C-WE# on the board", 39 F-RP# (in) "Flash pin which resets the flash memory. Should be connected to C-RP# on the board.", 40 TM1 (in) "Select test mode for configuration device.", 41 GND (power) "Ground pin", 42 TDI (in) "Joint Test Action Group (JTAG) data input.", 43 VCCW (power) "Flash program/erase power supply.", 44 TDO (out) "JTAG data output.", 45 WP# (in) "Flash pin which should be tied to VCC or GND on the board.", 46 A19 (in) "Address input to flash memory.", 47 A18 (in) "Address input to flash memory.", 48 TMS (in) "JTAG mode selection.", 49 A17 (in) "Address input to flash memory.", 50 A7 (in) "Address input to flash memory.", 51 A6 (in) "Address input to flash memory.", 52 A5 (in) "Address input to flash memory.", 53 A4 (in) "Address input to flash memory.", 54 A3 (in) "Address input to flash memory.", 55 A2 (in) "Address input to flash memory.", 56 F-A1 (in) "Address input to flash memory. Should be connected to C-A1 on the board.", 57 Floating "Unconnected pin", 58 GND (power) "Ground pin", 59 VCC (power) "Power supply pin", 60 nCS (in) "Connected to CONF_DONE in the PLD. The PLD will drive it low, when OE is asserted.", 61 EXCLK (in) "External clock source.", 62 C-A1 (out) "Address input to flash memory. Should be connected to F-A1 on the board.", 63 NC "No Connect pin", 64 NC "No Connect pin", 65 C-A0 (out) "Address input to flash memory. Should be connected to F-A0 on the board.", 66 PORSEL (in) "Select 2 ms or 100 ms power-on reset (POR).", 67 VCC (power) "Power supply pin", 68 VCC (power) "Power supply pin", 69 GND (power) "Ground pin", 70 GND (power) "Ground pin", 71 TM0 (in) "Select test mode for configuration device.", 72 C-RP# (out) "Flash pin which resets the flash memory. Should be connected to F-RP# on the board.", 73 DATA0 (out) "PLD configuration output data bus.", 74 Floating "Unconnected pin", 75 F-A0 (in) "Address input to Flash memory. Should be connected to C-A0 on the board.", 76 NC "No Connect pin", 77 NC "No Connect pin", 78 CE# (in) "Flash pin that activates the flash memory.", 79 GND (power) "Ground pin", 80 OE# (in) "Flash pin that enables the drivers of the flash output pins.", 81 DQ0 (io) "Data bus that interfaces with flash memory and the controller.", 82 DQ8 (io) "Data bus that interfaces with flash memory and the controller.", 83 DQ1 (io) "Data bus that interfaces with flash memory and the controller.", 84 DATA1 (out) "PLD configuration output data bus.", 85 DQ9 (io) "Data bus that interfaces with flash memory and the controller.", 86 DQ2 (io) "Data bus that interfaces with flash memory and the controller.", 87 DQ10 (io) "Data bus that interfaces with flash memory and the controller.", 88 DATA2 (out) "PLD configuration output data bus.", 89 DQ3 (io) "Data bus that interfaces with flash memory and the controller.", 90 DQ11 (io) "Data bus that interfaces with flash memory and the controller.", 91 DATA3 (out) "PLD configuration output data bus.", 92 VCC (power) "Power supply pin", 93 DQ4 (io) "Data bus that interfaces with flash memory and the controller.", 94 DQ12 (io) "Data bus that interfaces with flash memory and the controller.", 95 DQ5 (io) "Data bus that interfaces with flash memory and the controller.", 96 DATA4 (out) "PLD configuration output data bus.", 97 DQ13 (io) "Data bus that interfaces with flash memory and the controller.", 98 DQ6 (io) "Data bus that interfaces with flash memory and the controller.", 99 DQ14 (io) "Data bus that interfaces with flash memory and the controller.", 100 DQ7 (io) "Data bus that interfaces with flash memory and the controller."

## EPC8QI100
designator U?
EPC8 Series, In-system programmable 3.3V configuration device, 100-Pin PQFP, 8-Megabit, Industrial Grade; Configures: Stratix, APEX II, APEX 20K, Mercury, ACEX 1K & FLEX 10K Devices; Published: 17-Sep-2003; LatestRevisionDate: 13-Apr-2006; LatestRevisionNote: IPC-7351 Footprint Added.; DatasheetVersion: ver2.0, Oct-2003; PackageVersion: ver14.3, Jul-2006; PackageReference: PQFP100; Publisher: Altium Limited; PackageDescription: 100-Pin Plastic Quad Flat Pack (PFQP100) - Option 1; Supplier 1: Digi-Key; Supplier Part Number 1: 544-1239-ND; Code_JEDEC: MS-022-GC-1; Code_IPC: QFP65P1720X2320-100; ComponentLink1Description: Manufacturer Link; ComponentLink1URL: http://www.altera.com/products/devices/config/cfg-index.html; ComponentLink2Description: Configuration Handbook; ComponentLink2URL: http://www.altera.com/literature/hb/cfg/config_handbook.pdf; ComponentLink3Description: Pinout Specification; ComponentLink3URL: http://www.altera.com/literature/dp/config/epc8.txt; ComponentLink4Description: Packaging Specification; ComponentLink4URL: http://www.altera.com/literature/ds/dspkg.pdf
footprint PQFP100_N (QFP, 100-Leads, Body 20x14mm, Pitch 0.65mm, IPC Medium Density)
footprint PQFP100_L (QFP, 100-Leads, Body 20x14mm, Pitch 0.65mm, IPC High Density)
footprint PQFP100_M (QFP, 100-Leads, Body 20x14mm, Pitch 0.65mm, IPC Low Density)
3D model EPC8-PQFP100 (100-Pin Plastic Quad Flat Pack (PFQP100) - Option 1)
pins: 1 DQ15 (io) "Data bus that interfaces with flash memory and the controller.", 2 GND (power) "Ground pin", 3 NC "No Connect pin", 4 NC "No Connect pin", 5 BYTE# (in) "Flash byte enable. Connected to VCC.", 6 F-A16 (in) "Address input to flash memory. Should be connected to C-A16 on the board.", 7 Floating "Unconnected pin", 8 DATA7 (out) "PLD configuration output data bus.", 9 DATA6 (out) "PLD configuration output data bus.", 10 DATA5 (out) "PLD configuration output data bus.", 11 DCLK (out) "Configuration devices drive this signal to the programmable logic device (PLD) as a configuration clock.", 12 VCC (power) "Power supply pin", 13 PGM1 (in) "Select one of eight pages that contains configuration data.", 14 PGM0 (in) "Select one of eight pages that contains configuration data.", 15 PGM2 (in) "Select one of eight pages that contains configuration data.", 16 nINIT _ CONF (out) "Initiate configuration.", 17 C-A16 (out) "Address input to flash memory. Should be connected to F-A16 on the board.", 18 NC "No Connect pin", 19 NC "No Connect pin", 20 NC "No Connect pin", 21 C-A15 (out) "Address input to flash memory. Should be connected to F-A15 on the board.", 22 VCC (power) "Power supply pin", 23 OE (io) "Configuration devices sense that OE goes high, before starting PLD configuration.", 24 Floating "Unconnected pin", 25 F-A15 (in) "Address input to flash memory. Should be connected to C-A15 on the board.", 26 A14 (in) "Address input to flash memory.", 27 A13 (in) "Address input to flash memory.", 28 A12 (in) "Address input to flash memory.", 29 A11 (in) "Address input to flash memory.", 30 NC "No Connect pin", 31 A10 (in) "Address input to flash memory.", 32 A9 (in) "Address input to flash memory.", 33 C-WE# (out) "Controller write enable pin. Should be connected to F-WE# on the board", 34 A8 (in) "Address input to flash memory.", 35 TCK (in) "JTAG clock.", 36 A20 (in) "Address input to flash memory.", 37 RY/BY# (out) "Flash ready busy pin. Will be asserted when write or erase operation is completed.", 38 F-WE# (in) "Flash write enable pin. Should be connected to C-WE# on the board", 39 F-RP# (in) "Flash pin which resets the flash memory. Should be connected to C-RP# on the board.", 40 TM1 (in) "Select test mode for configuration device.", 41 GND (power) "Ground pin", 42 TDI (in) "Joint Test Action Group (JTAG) data input.", 43 VCCW (power) "Flash program/erase power supply.", 44 TDO (out) "JTAG data output.", 45 WP# (in) "Flash pin which should be tied to VCC or GND on the board.", 46 A19 (in) "Address input to flash memory.", 47 A18 (in) "Address input to flash memory.", 48 TMS (in) "JTAG mode selection.", 49 A17 (in) "Address input to flash memory.", 50 A7 (in) "Address input to flash memory.", 51 A6 (in) "Address input to flash memory.", 52 A5 (in) "Address input to flash memory.", 53 A4 (in) "Address input to flash memory.", 54 A3 (in) "Address input to flash memory.", 55 A2 (in) "Address input to flash memory.", 56 F-A1 (in) "Address input to flash memory. Should be connected to C-A1 on the board.", 57 Floating "Unconnected pin", 58 GND (power) "Ground pin", 59 VCC (power) "Power supply pin", 60 nCS (in) "Connected to CONF_DONE in the PLD. The PLD will drive it low, when OE is asserted.", 61 EXCLK (in) "External clock source.", 62 C-A1 (out) "Address input to flash memory. Should be connected to F-A1 on the board.", 63 NC "No Connect pin", 64 NC "No Connect pin", 65 C-A0 (out) "Address input to flash memory. Should be connected to F-A0 on the board.", 66 PORSEL (in) "Select 2 ms or 100 ms power-on reset (POR).", 67 VCC (power) "Power supply pin", 68 VCC (power) "Power supply pin", 69 GND (power) "Ground pin", 70 GND (power) "Ground pin", 71 TM0 (in) "Select test mode for configuration device.", 72 C-RP# (out) "Flash pin which resets the flash memory. Should be connected to F-RP# on the board.", 73 DATA0 (out) "PLD configuration output data bus.", 74 Floating "Unconnected pin", 75 F-A0 (in) "Address input to Flash memory. Should be connected to C-A0 on the board.", 76 NC "No Connect pin", 77 NC "No Connect pin", 78 CE# (in) "Flash pin that activates the flash memory.", 79 GND (power) "Ground pin", 80 OE# (in) "Flash pin that enables the drivers of the flash output pins.", 81 DQ0 (io) "Data bus that interfaces with flash memory and the controller.", 82 DQ8 (io) "Data bus that interfaces with flash memory and the controller.", 83 DQ1 (io) "Data bus that interfaces with flash memory and the controller.", 84 DATA1 (out) "PLD configuration output data bus.", 85 DQ9 (io) "Data bus that interfaces with flash memory and the controller.", 86 DQ2 (io) "Data bus that interfaces with flash memory and the controller.", 87 DQ10 (io) "Data bus that interfaces with flash memory and the controller.", 88 DATA2 (out) "PLD configuration output data bus.", 89 DQ3 (io) "Data bus that interfaces with flash memory and the controller.", 90 DQ11 (io) "Data bus that interfaces with flash memory and the controller.", 91 DATA3 (out) "PLD configuration output data bus.", 92 VCC (power) "Power supply pin", 93 DQ4 (io) "Data bus that interfaces with flash memory and the controller.", 94 DQ12 (io) "Data bus that interfaces with flash memory and the controller.", 95 DQ5 (io) "Data bus that interfaces with flash memory and the controller.", 96 DATA4 (out) "PLD configuration output data bus.", 97 DQ13 (io) "Data bus that interfaces with flash memory and the controller.", 98 DQ6 (io) "Data bus that interfaces with flash memory and the controller.", 99 DQ14 (io) "Data bus that interfaces with flash memory and the controller.", 100 DQ7 (io) "Data bus that interfaces with flash memory and the controller."